# Altium schematic symbol library ESP-01&01S Module.SchLib: 1 symbol
Pins are listed as number, name and electrical type; pins without a type are passive.

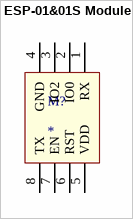
[diagram p0: symbol ESP-01&01S Module]

## ESP-01&01S Module
designator M?
footprint ESP-01&01S Module
pins: 1 RX, 2 IO0, 3 IO2, 4 GND, 5 VDD, 6 RST, 7 EN, 8 TX